# Altium footprint library KMR621NGLFS.PcbLib: 1 footprints
Each footprint in its own frame and in the unit in brackets; x right, y up, seen from the top. Pads: shape width x height; smd on the part's side, far side on the other; paste and mask are expansions set on the pad; w line width, h text height; cw(c..) or ccw(c..) is an arc to the next point about the centre after c.
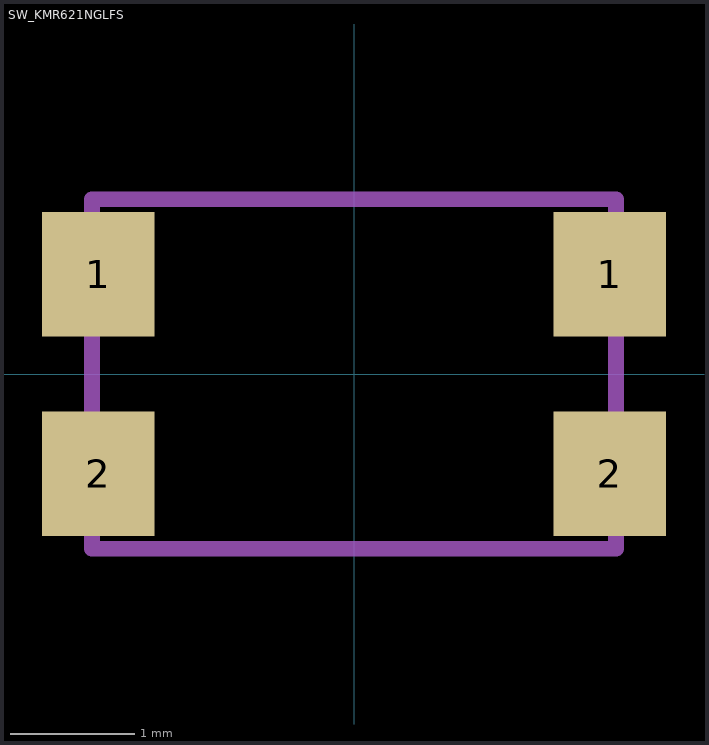
[diagram p0: the footprint, top view; thin cyan lines are the x and y axes]

## SW_KMR621NGLFS [mm]
pads (4):
  rect 0.9x1 smd: 1(-2.05,0.8) 1(2.05,0.8) 2(-2.05,-0.8) 2(2.05,-0.8)
Mechanical 1:
  lines w0.127: -2.1,-1.4 -2.1,1.4 2.1,1.4 2.1,-1.4 -2.1,-1.4
3D body "KMR621NG LFS--3DModel-STEP-56544.STEP": height 1.9, standoff 0, extent -2.3,-1.4 2.3,1.4